# Altium footprint library TMA.PcbLib: 2 footprints
Each footprint in its own frame and in the unit in brackets; x right, y up, seen from the top. Pads: shape width x height; smd on the part's side, far side on the other; paste and mask are expansions set on the pad; w line width, h text height; cw(c..) or ccw(c..) is an arc to the next point about the centre after c.
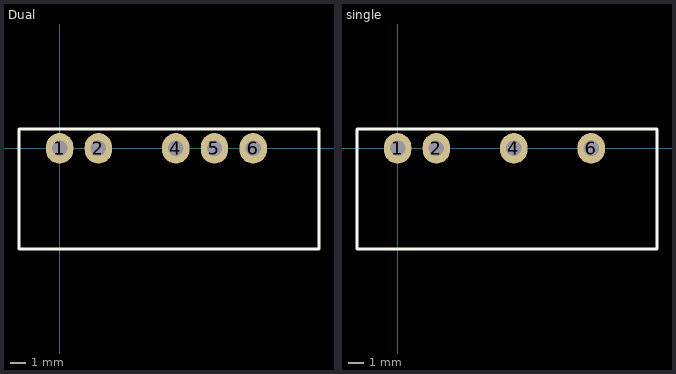
[diagram p0: the footprints below, top view; thin cyan lines are the x and y axes]

## Dual [mm] "DC-DC"
height 10.2
pads (5):
  oval 1.8x2 hole 1: 1(0,0) 2(2.54,0) 4(7.62,0) 5(10.16,0) 6(12.7,0)
Top Overlay:
  lines w0.2: -2.667,-6.604 17.018,-6.604 17.018,1.27 -2.667,1.27 -2.667,-6.604
3D body "tmh.stp": height 10.25, standoff -3.15, extent -2.587,-6.441 16.913,1.159

## single [mm] "DC-DC"
height 10.2
pads (4):
  oval 1.8x2 hole 1: 1(0,0) 2(2.54,0) 4(7.62,0) 6(12.7,0)
Top Overlay:
  lines w0.2: -2.667,-6.604 17.018,-6.604 17.018,1.27 -2.667,1.27 -2.667,-6.604
3D body "tmh.stp": height 10.25, standoff -3.15, extent -2.587,-6.441 16.913,1.159